# Altium footprint library PcbLib0.PcbLib: 7 footprints
Each footprint in its own frame and in the unit in brackets; x right, y up, seen from the top. Pads: shape width x height; smd on the part's side, far side on the other; paste and mask are expansions set on the pad; w line width, h text height; cw(c..) or ccw(c..) is an arc to the next point about the centre after c.
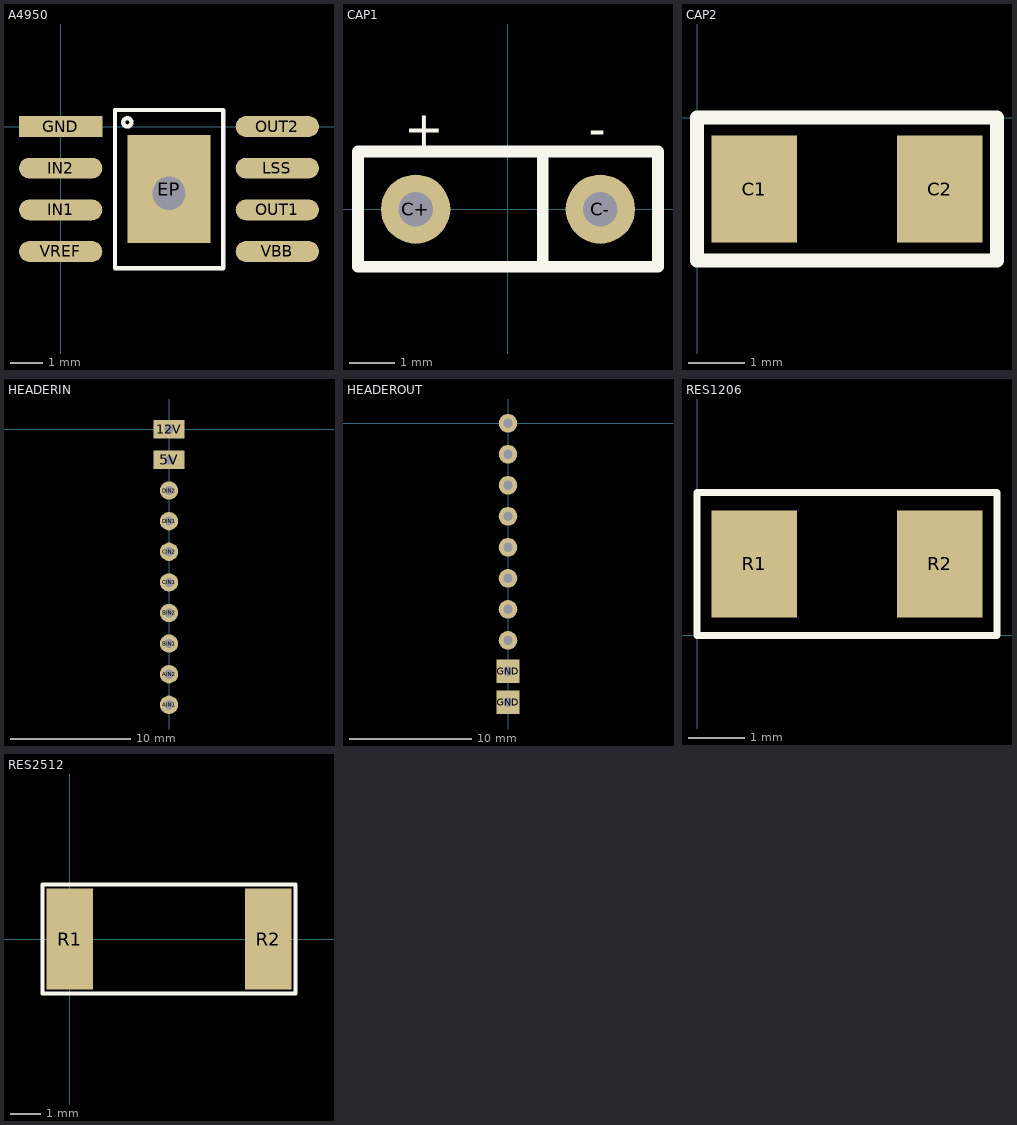
[diagram p0: the footprints below, top view; thin cyan lines are the x and y axes]

## A4950 [mil]
pads (9):
  rect 100x130 smd: EP(130,-75)
  rect 100x25 smd: GND(0,0)
  oval 100x25 smd: IN1(0,-100) IN2(0,-50) LSS(260,-50) OUT1(260,-100) OUT2(260,0) VBB(260,-150) VREF(0,-150)
via 130,-80 diameter 65 hole 40
Top Overlay:
  circle w5: c80,5 r5
  lines w5: 65,-170 195,-170 195,20 65,20 65,-170

## CAP1 [mil]
pads (2):
  round 60 hole 30: C+(-80,0) C-(80,0)
Top Overlay:
  lines w10: 30,-50 30,50 ; -130,-50 130,-50 130,50 -130,50 -130,-50
  text "-" at 70,55 h30
  text "+" at -90,55 h30

## CAP2 [mil]
pads (2):
  rect 60x75 smd: C1(40,-50) C2(170,-50)
Top Overlay:
  lines w10: 0,-100 210,-100 210,0 0,0 0,-100

## HEADERIN [mil]
pads (10):
  rect 100x60 hole 30: 5V(0,-100) 12V(0,0)
  round 60 hole 30: AIN1(0,-900) AIN2(0,-800) BIN1(0,-700) BIN2(0,-600) CIN1(0,-500) CIN2(0,-400) DIN1(0,-300) DIN2(0,-200)

## HEADEROUT [mil]
pads (10):
  round 60 hole 30: AOUT1(0,0) AOUT2(0,-100) BOUT1(0,-200) BOUT2(0,-300) COUT1(0,-400) COUT2(0,-500) DOUT1(0,-600) DOUT2(0,-700)
  rect 75x75 hole 30: GND(0,-900) GND(0,-800)

## RES1206 [mil]
pads (2):
  rect 60x75 smd: R1(40,50) R2(170,50)
Top Overlay:
  lines w5: 0,0 210,0 210,100 0,100 0,0

## RES2512 [mil]
pads (2):
  rect 60x130 smd: R1(0,0) R2(255,0)
Top Overlay:
  lines w5: -35,-70 -35,70 290,70 290,-70 -35,-70